# Altium footprint library PcbLib1.PcbLib: 28 footprints (part 1 of 2)
Each footprint in its own frame and in the unit in brackets; x right, y up, seen from the top. Pads: shape width x height; smd on the part's side, far side on the other; paste and mask are expansions set on the pad; w line width, h text height; cw(c..) or ccw(c..) is an arc to the next point about the centre after c.
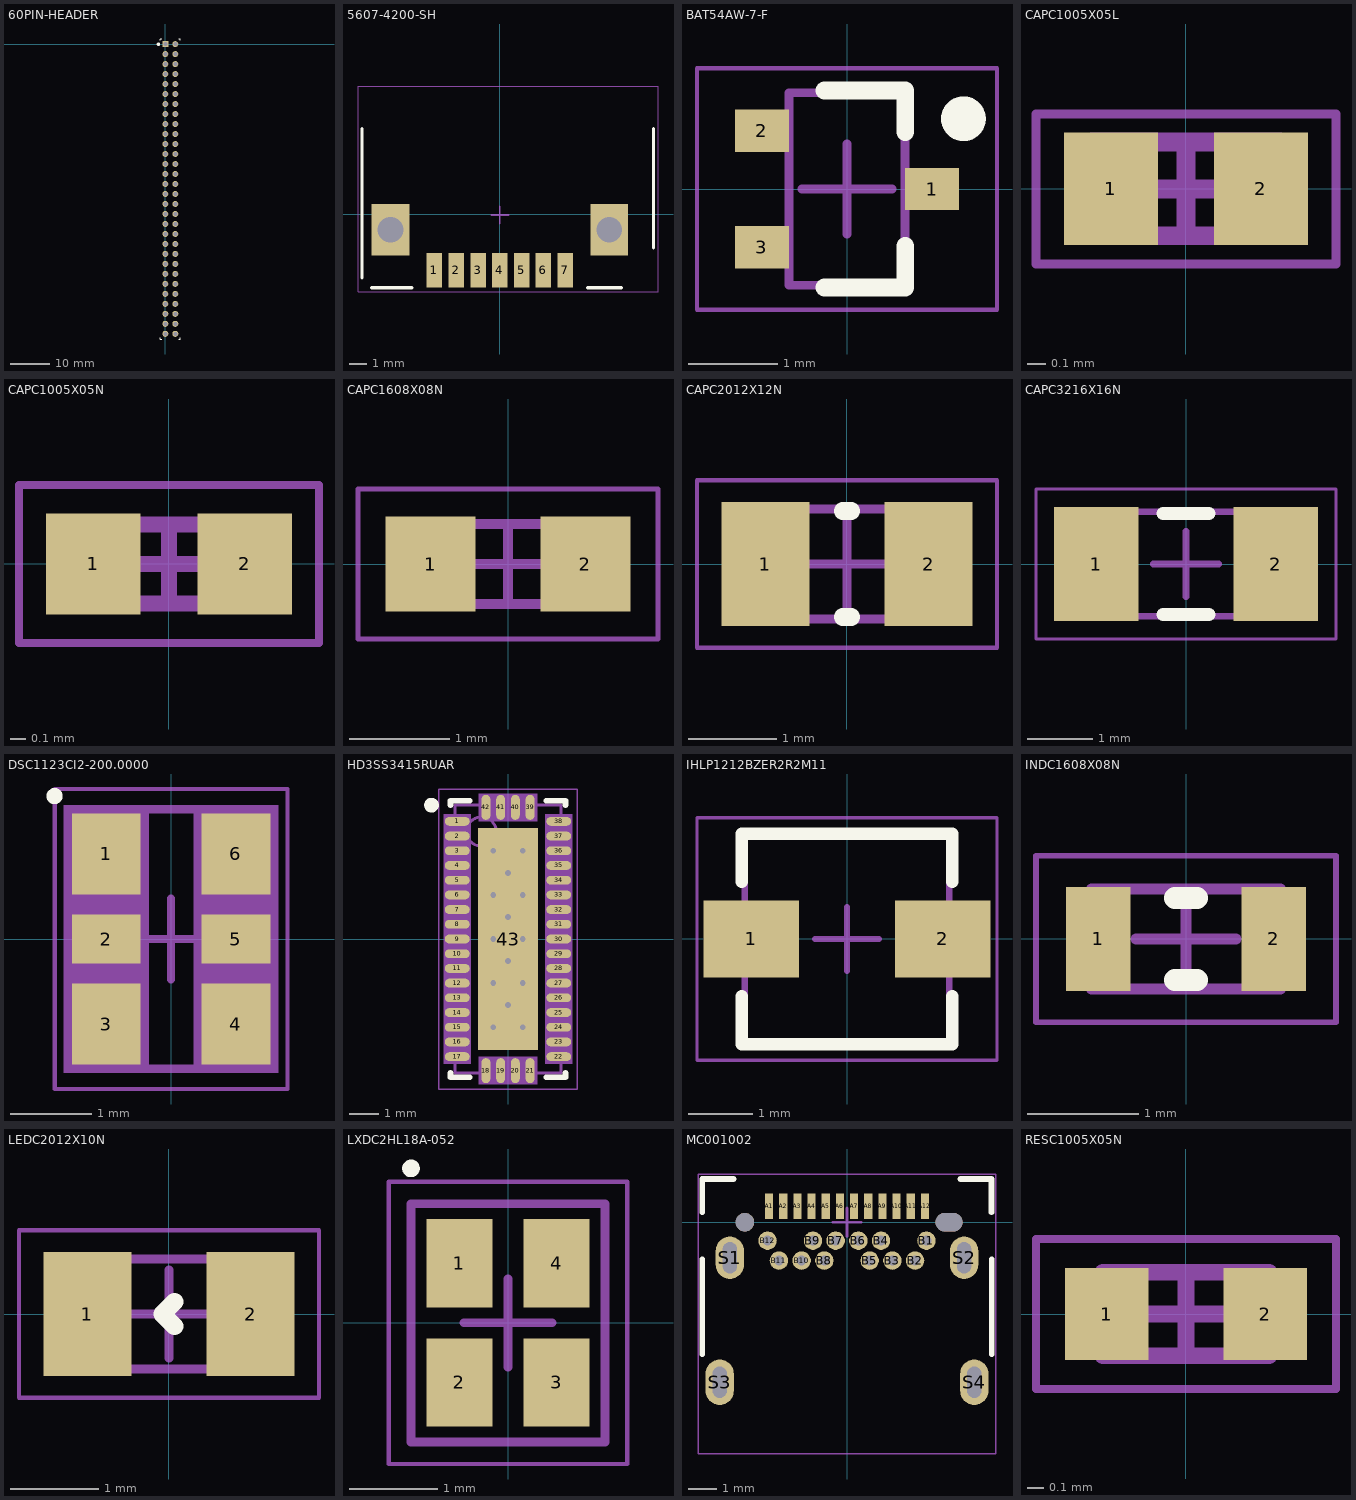
[diagram p0: the footprints below, top view; thin cyan lines are the x and y axes]

## 60PIN-HEADER [mm] "60PIN-HEADER"
pads (60):
  rect 1.5x1.5 hole 1.02 mask+0: 1(0,0)
  round 1.5 hole 1.02 mask+0: 2(2.54,0) 3(0,-2.54) 4(2.54,-2.54) 5(0,-5.08) 6(2.54,-5.08) 7(0,-7.62) 8(2.54,-7.62) 9(0,-10.16) 10(2.54,-10.16) 11(0,-12.7) 12(2.54,-12.7) 13(0,-15.24) 14(2.54,-15.24) 15(0,-17.78) 16(2.54,-17.78) 17(0,-20.32) 18(2.54,-20.32) 19(0,-22.86) 20(2.54,-22.86) 21(0,-25.4) 22(2.54,-25.4) 23(0,-27.94) 24(2.54,-27.94) 25(0,-30.48) 26(2.54,-30.48) 27(0,-33.02) 28(2.54,-33.02) 29(0,-35.56) 30(2.54,-35.56) 31(0,-38.1) 32(2.54,-38.1) 33(0,-40.64) 34(2.54,-40.64) 35(0,-43.18) 36(2.54,-43.18) 37(0,-45.72) 38(2.54,-45.72) 39(0,-48.26) 40(2.54,-48.26) 41(0,-50.8) 42(2.54,-50.8) 43(0,-53.34) 44(2.54,-53.34) 45(0,-55.88) 46(2.54,-55.88) 47(0,-58.42) 48(2.54,-58.42) 49(0,-60.96) 50(2.54,-60.96) 51(0,-63.5) 52(2.54,-63.5) 53(0,-66.04) 54(2.54,-66.04) 55(0,-68.58) 56(2.54,-68.58) 57(0,-71.12) 58(2.54,-71.12) 59(0,-73.66) 60(2.54,-73.66)
Top Overlay:
  circle w0.5: c-1.75,-0.05 r0.2
  lines w0.2: -1.27,-74.625 -1.27,-74.975 -0.875,-74.975 ; -1.27,0.95 -1.27,1.3 ; -1.26,1.3 -0.91,1.3 ; 3.415,1.3 3.81,1.3 3.81,0.95 ; 3.45,-74.975 3.8,-74.975 ; 3.81,-74.975 3.81,-74.625

## 5607-4200-SH [mm] "Recommended pcb layout for 5607-4200-SH"
pads (9):
  rect 0.9x2 smd paste-1000 mask+0: 1(-3.809,-3.257) 2(-2.539,-3.257) 3(-1.269,-3.257) 4(0.001,-3.257) 5(1.271,-3.257) 6(2.541,-3.257) 7(3.811,-3.257)
  rect 2.2x3 hole 1.5 paste-1000 mask+0: ""(-6.369,-0.897) ""(6.371,-0.897)
Top Overlay:
  lines w0.2: -8.025,-3.697 -8.025,5 ; -7.45,-4.272 -5.125,-4.272 ; 5.125,-4.272 7.075,-4.272 ; 8.95,-1.95 8.95,5
Mechanical 15:
  lines w0.05: -8.259,-4.5 9.211,-4.5 9.211,7.453 -8.259,7.453 -8.259,-4.5
  lines w0.1: -0.499,-0.047 0.501,-0.047 ; -0.497,-0.026 0.503,-0.026 ; 0.001,-0.547 0.001,0.453 ; 0.003,-0.526 0.003,0.474

## BAT54AW-7-F [mm] "SOT23, 3-Leads, Body 1,97x2,05mm, Pitch 0,65mm, IPC Medium Density"
height 1
pads (3):
  rect 0.6x0.47 smd: 1(0.95,0) 2(-0.95,0.65) 3(-0.95,-0.65)
Top Overlay:
  circle w0.25: c1.3,0.785 r0.125
  lines w0.2: -0.25,-1.1 0.65,-1.1 0.65,-0.635 ; -0.25,1.1 0.65,1.1 0.65,0.635
Mechanical 13:
  lines w0.1: -0.65,-1.075 0.65,-1.075 0.65,1.075 -0.65,1.075 -0.65,-1.075
Mechanical 15:
  lines w0.05: -1.675,-1.35 1.675,-1.35 1.675,1.35 -1.675,1.35 -1.675,-1.35
  lines w0.1: -0.5,0 0.5,0 ; 0,-0.5 0,0.5
3D body "BAT54AW-7-F.step": height 1, standoff 0, extent -1.05,-1.075 1.05,1.075

## CAPC1005X05L [mm] "Chip Capacitor, 2-Leads, Body 1,00x0,50mm, IPC High Density"
height 0.5
pads (2):
  rect 0.5x0.6 smd mask+0.02: 1(-0.4,0) 2(0.4,0)
Mechanical 13:
  lines w0.1: -0.5,-0.25 0.5,-0.25 0.5,0.25 -0.5,0.25 -0.5,-0.25
Mechanical 15:
  lines w0.05: -0.8,-0.4 0.8,-0.4 0.8,0.4 -0.8,0.4 -0.8,-0.4
  lines w0.1: -0.25,0 0.25,0 ; 0,-0.25 0,0.25
3D body "CAPC1005X05L3.step": height 0.5, standoff 0, extent -0.5,-0.25 0.5,0.25

## CAPC1005X05N [mm] "Chip Capacitor, 2-Leads, Body 1,00x0,50mm, IPC Medium Density"
height 0.5
pads (2):
  rect 0.6x0.64 smd: 1(-0.48,0) 2(0.48,0)
Mechanical 13:
  lines w0.1: -0.5,-0.25 0.5,-0.25 0.5,0.25 -0.5,0.25 -0.5,-0.25
Mechanical 15:
  lines w0.05: -0.95,-0.5 0.95,-0.5 0.95,0.5 -0.95,0.5 -0.95,-0.5
  lines w0.1: -0.25,0 0.25,0 ; 0,-0.25 0,0.25
3D body "CAPC1005X05N.step": height 0.5, standoff 0, extent -0.5,-0.25 0.5,0.25

## CAPC1608X08N [mm] "Chip Capacitor, 2-Leads, Body 1,60x0,80mm, IPC Medium Density"
height 0.8
pads (2):
  rect 0.9x0.95 smd: 1(-0.775,0) 2(0.775,0)
Mechanical 13:
  lines w0.1: -0.8,-0.4 -0.8,0.4 0.8,0.4 0.8,-0.4 -0.8,-0.4
Mechanical 15:
  lines w0.05: -1.5,-0.75 -1.5,0.75 1.5,0.75 1.5,-0.75 -1.5,-0.75
  lines w0.1: -0.4,0 0.4,0 ; 0,-0.4 0,0.4
3D body "CAPC1608X08N.step": height 0.8, standoff 0, extent -0.8,-0.4 0.8,0.4

## CAPC2012X12N [mm] "Chip Capacitor, 2-Leads, Body 2,00x1,25mm, IPC Medium Density"
height 1.25
pads (2):
  rect 1x1.4 smd: 1(-0.925,0) 2(0.925,0)
Top Overlay:
  lines w0.2: -0.05,-0.6 0.05,-0.6 ; -0.05,0.6 0.05,0.6
Mechanical 13:
  lines w0.1: -1,-0.625 -1,0.625 1,0.625 1,-0.625 -1,-0.625
Mechanical 15:
  lines w0.05: -1.7,-0.95 -1.7,0.95 1.7,0.95 1.7,-0.95 -1.7,-0.95
  lines w0.1: -0.5,0 0.5,0 ; 0,-0.5 0,0.5
3D body "CAPC2012X12N.step": height 1.2, standoff 0, extent -1,-0.6 1,0.6

## CAPC3216X16N [mm] "Chip Capacitor, 2-Leads, Body 3,20x1,60mm, IPC Medium Density"
height 1.6
pads (2):
  rect 1.3x1.75 smd: 1(-1.375,0) 2(1.375,0)
Top Overlay:
  lines w0.2: -0.35,-0.775 0.35,-0.775 ; -0.35,0.775 0.35,0.775
Mechanical 13:
  lines w0.1: -1.6,-0.8 1.6,-0.8 1.6,0.8 -1.6,0.8 -1.6,-0.8
Mechanical 15:
  lines w0.05: -2.3,-1.15 2.3,-1.15 2.3,1.15 -2.3,1.15 -2.3,-1.15
  lines w0.1: -0.5,0 0.5,0 ; 0,-0.5 0,0.5
3D body "CAPC3216X16N.step": height 1.6, standoff 0, extent -1.6,-0.8 1.6,0.8

## DSC1123CI2-200.0000 [mm] "PSON, 6-Leads, Body 3,20x2,50mm, Pitch 1,05mm, IPC Medium Density"
height 0.9
pads (6):
  rect 0.85x1 smd mask+0.04: 1(-0.8,1.05) 3(-0.8,-1.05) 4(0.8,-1.05) 6(0.8,1.05)
  rect 0.85x0.6 smd mask+0.04: 2(-0.8,0) 5(0.8,0)
Top Overlay:
  circle w0.1: c-1.437,1.762 r0.05
Mechanical 13:
  lines w0.1: -1.25,-1.6 -1.25,1.6 1.25,1.6 1.25,-1.6 -1.25,-1.6
Mechanical 15:
  rectangle: 0.275,-1.65 1.325,1.65
  rectangle: -1.325,-1.65 -0.275,1.65
  lines w0.05: -1.435,-1.85 -1.435,1.85 1.435,1.85 1.435,-1.85 -1.435,-1.85
  lines w0.1: -0.5,0 0.5,0 ; 0,-0.5 0,0.5
3D body: height 0.9, standoff 0, extent -1.25,-1.6 1.25,1.6

## HD3SS3415RUAR [mm] "QFN, 42-Leads, Body 3,50x9,00mm, Pitch 0,50mm, Thermal Pad 2,05x7,55mm, IPC Medium Density"
height 0.8
pads (43):
  oval 0.85x0.3 smd paste-0.025 mask+0.04: 1(-1.725,4) 2(-1.725,3.5) 3(-1.725,3) 4(-1.725,2.5) 5(-1.725,2) 6(-1.725,1.5) 7(-1.725,1) 8(-1.725,0.5) 9(-1.725,0) 10(-1.725,-0.5) 11(-1.725,-1) 12(-1.725,-1.5) 13(-1.725,-2) 14(-1.725,-2.5) 15(-1.725,-3) 16(-1.725,-3.5) 17(-1.725,-4) 22(1.725,-4) 23(1.725,-3.5) 24(1.725,-3) 25(1.725,-2.5) 26(1.725,-2) 27(1.725,-1.5) 28(1.725,-1) 29(1.725,-0.5) 30(1.725,0) 31(1.725,0.5) 32(1.725,1) 33(1.725,1.5) 34(1.725,2) 35(1.725,2.5) 36(1.725,3) 37(1.725,3.5) 38(1.725,4)
  oval 0.3x0.85 smd paste-0.025 mask+0.04: 18(-0.75,-4.475) 19(-0.25,-4.475) 20(0.25,-4.475) 21(0.75,-4.475) 39(0.75,4.475) 40(0.25,4.475) 41(-0.25,4.475) 42(-0.75,4.475)
  rect 2.05x7.55 smd paste-1000 mask+0: 43(0,0)
via 0,-2.25 diameter 0.5 hole 0.2
via 0.5,3 diameter 0.5 hole 0.2
via -0.5,3 diameter 0.5 hole 0.2
via 0,2.25 diameter 0.5 hole 0.2
via -0.5,-3 diameter 0.5 hole 0.2
via 0.5,-3 diameter 0.5 hole 0.2
via 0.5,-1.5 diameter 0.5 hole 0.2
via 0,-0.75 diameter 0.5 hole 0.2
via -0.5,0 diameter 0.5 hole 0.2
via -0.5,-1.5 diameter 0.5 hole 0.2
via 0.5,0 diameter 0.5 hole 0.2
via 0,0.75 diameter 0.5 hole 0.2
via 0.5,1.5 diameter 0.5 hole 0.2
via -0.5,1.5 diameter 0.5 hole 0.2
Top Overlay:
  circle w0.25: c-2.6,4.55 r0.125
  lines w0.2: -1.95,-4.55 -1.95,-4.7 -1.3,-4.7 ; -1.95,4.55 -1.95,4.7 -1.3,4.7 ; 1.3,-4.7 1.95,-4.7 1.95,-4.55 ; 1.3,4.7 1.95,4.7 1.95,4.55
Top Paste:
  rectangle: 0.15,2.675 0.925,3.675
  rectangle: -0.925,2.675 -0.15,3.675
  rectangle: 0.15,1.425 0.925,2.425
  rectangle: -0.925,1.425 -0.15,2.425
  rectangle: 0.15,-3.625 0.925,-2.625
  rectangle: -0.925,-3.625 -0.15,-2.625
  rectangle: 0.15,-2.375 0.925,-1.375
  rectangle: -0.925,-2.375 -0.15,-1.375
  rectangle: 0.15,-1.125 0.925,-0.125
  rectangle: -0.925,-1.125 -0.15,-0.125
  rectangle: -0.925,0.125 -0.15,1.125
  rectangle: 0.15,0.125 0.925,1.125
Mechanical 13:
  circle w0.1: c-0.9,3.65 r0.5
  lines w0.1: -1.8,-4.55 1.8,-4.55 1.8,4.55 -1.8,4.55 -1.8,-4.55
Mechanical 15:
  rectangle: -2.2,-4.25 -1.25,4.25
  rectangle: -1,4 1,4.95
  rectangle: 1.25,-4.25 2.2,4.25
  rectangle: -1,-4.95 1,-4
  lines w0.05: -2.35,-5.1 2.35,-5.1 2.35,5.1 -2.35,5.1 -2.35,-5.1
  lines w0.1: -0.5,0 0.5,0 ; 0,-0.5 0,0.5
3D body: height 0.8, standoff 0, extent -1.8,-4.55 1.8,4.55

## IHLP1212BZER2R2M11 [mm] "Molded Inductor, 2-Leads, Body 3,00x3,00mm, IPC Medium Density"
height 2
pads (2):
  rect 1.5x1.2 smd: 1(-1.5,0) 2(1.5,0)
Top Overlay:
  lines w0.2: -1.65,-0.9 -1.65,-1.65 1.65,-1.65 1.65,-0.9 ; -1.65,0.9 -1.65,1.65 1.65,1.65 1.65,0.9
Mechanical 13:
  lines w0.1: -1.6,-1.6 1.6,-1.6 1.6,1.6 -1.6,1.6 -1.6,-1.6
Mechanical 15:
  lines w0.05: -2.35,-1.9 2.35,-1.9 2.35,1.9 -2.35,1.9 -2.35,-1.9
  lines w0.1: -0.5,0 0.5,0 ; 0,-0.5 0,0.5
3D body "IHLP1212BZER2R2M11.step": height 2, standoff 0, extent -1.82,-1.6 1.82,1.6

## INDC1608X08N [mm] "Chip Inductor, 2-Leads, Body 1,60x0,80mm, IPC Medium Density"
height 0.8
pads (2):
  rect 0.58x0.94 smd: 1(-0.79,0) 2(0.79,0)
Top Overlay:
  lines w0.2: -0.1,-0.37 0.1,-0.37 ; -0.1,0.37 0.1,0.37
Mechanical 13:
  lines w0.1: -0.85,-0.45 0.85,-0.45 0.85,0.45 -0.85,0.45 -0.85,-0.45
Mechanical 15:
  lines w0.05: -1.35,-0.75 1.35,-0.75 1.35,0.75 -1.35,0.75 -1.35,-0.75
  lines w0.1: -0.45,0 0.45,0 ; 0,-0.45 0,0.45
3D body "INDC1608X08N.step": height 0.8, standoff 0, extent -0.875,-0.475 0.875,0.475

## LEDC2012X10N [mm] "Chip LED, 2-Leads, Body 2,00x1,25mm, IPC Medium Density"
height 1
pads (2):
  rect 1x1.4 smd: 1(-0.925,0) 2(0.925,0)
Top Overlay:
  lines w0.2: 0.063,-0.138 -0.075,0 0.063,0.137
Mechanical 13:
  lines w0.1: -1,-0.625 1,-0.625 1,0.625 -1,0.625 -1,-0.625
Mechanical 15:
  lines w0.05: -1.7,-0.95 1.7,-0.95 1.7,0.95 -1.7,0.95 -1.7,-0.95
  lines w0.1: -0.5,0 0.5,0 ; 0,-0.5 0,0.5
3D body: height 1, standoff 0, extent 0.5,-0.625 1,0.625
3D body: height 1, standoff 0, extent -1,-0.625 -0.5,0.625
3D body: height 1, standoff 0, extent -0.5,-0.625 0.5,0.625

## LXDC2HL18A-052 [mm] "DFN, 4-Leads, Body 2,50x2,00mm, Pitch 1,10mm, IPC Medium Density"
height 1.1
pads (4):
  rect 0.75x1 smd: 1(-0.55,0.675) 2(-0.55,-0.675) 3(0.55,-0.675) 4(0.55,0.675)
Top Overlay:
  circle w0.1: c-1.1,1.75 r0.05
Mechanical 13:
  lines w0.1: -1.1,-1.35 1.1,-1.35 1.1,1.35 -1.1,1.35 -1.1,-1.35
Mechanical 15:
  lines w0.05: -1.35,-1.6 1.35,-1.6 1.35,1.6 -1.35,1.6 -1.35,-1.6
  lines w0.1: -0.5,0 0.5,0 ; 0,-0.5 0,0.5
3D body: height 1.1, standoff 0, extent -1.1,-1.35 1.1,1.35

## MC001002 [mm] "Recommended pcb layout for MC001002"
height 1
pads (30):
  rect 0.29x0.9 smd mask+0: A1(-2.75,0.56) A2(-2.25,0.56) A3(-1.75,0.56) A4(-1.25,0.56) A5(-0.75,0.56) A6(-0.25,0.56) A7(0.25,0.56) A8(0.75,0.56) A9(1.25,0.56) A10(1.75,0.56) A11(2.25,0.56) A12(2.75,0.56)
  round 0.65 hole 0.35 mask+0: B1(2.8,-0.65) B2(2.4,-1.35) B3(1.6,-1.35) B4(1.2,-0.65) B5(0.8,-1.35) B6(0.4,-0.65) B7(-0.4,-0.65) B8(-0.8,-1.35) B9(-1.2,-0.65) B10(-1.6,-1.35) B11(-2.4,-1.35) B12(-2.8,-0.65)
  oval 1x1.5 hole 0.5 slot 1.1 at 90 deg mask+0: S1(-4.13,-1.25) S2(4.13,-1.25)
  oval 1x1.6 hole 0.5 slot 1.1 at 90 deg mask+0: S3(-4.49,-5.64) S4(4.49,-5.64)
  round 0.65 hole 0.65 unplated mask+0: ""(-3.6,0)
  oval 0.95x0.65 hole 0.65 slot 0.95 at 0 deg unplated mask+0: ""(3.6,0)
Top Overlay:
  lines w0.2: -5.105,0.35 -5.105,1.525 -4,1.525 ; -5.1,-4.659 -5.1,-1.3 ; 4,1.525 5.095,1.525 5.095,0.35 ; 5.1,-4.659 5.1,-1.3
Mechanical 15:
  lines w0.05: -5.25,-8.17 5.25,-8.17 5.25,1.7 -5.25,1.7 -5.25,-8.17
  lines w0.1: -0.5,0 0.5,0 ; 0,-0.5 0,0.5

## RESC1005X05N [mm] "Chip Resistor, 2-Leads, Body 1,00x0,50mm, IPC Medium Density"
height 0.5
pads (2):
  rect 0.5x0.55 smd: 1(-0.475,0) 2(0.475,0)
Mechanical 13:
  lines w0.1: -0.5,-0.25 0.5,-0.25 0.5,0.25 -0.5,0.25 -0.5,-0.25
Mechanical 15:
  lines w0.05: -0.9,-0.45 0.9,-0.45 0.9,0.45 -0.9,0.45 -0.9,-0.45
  lines w0.1: -0.25,0 0.25,0 ; 0,-0.25 0,0.25
3D body "RESC1005X05N.step": height 0.5, standoff 0, extent -0.5,-0.25 0.5,0.25